# Altium footprint library USB_SERIE.PcbLib: 1 footprints
Each footprint in its own frame and in the unit in brackets; x right, y up, seen from the top. Pads: shape width x height; smd on the part's side, far side on the other; paste and mask are expansions set on the pad; w line width, h text height; cw(c..) or ccw(c..) is an arc to the next point about the centre after c.
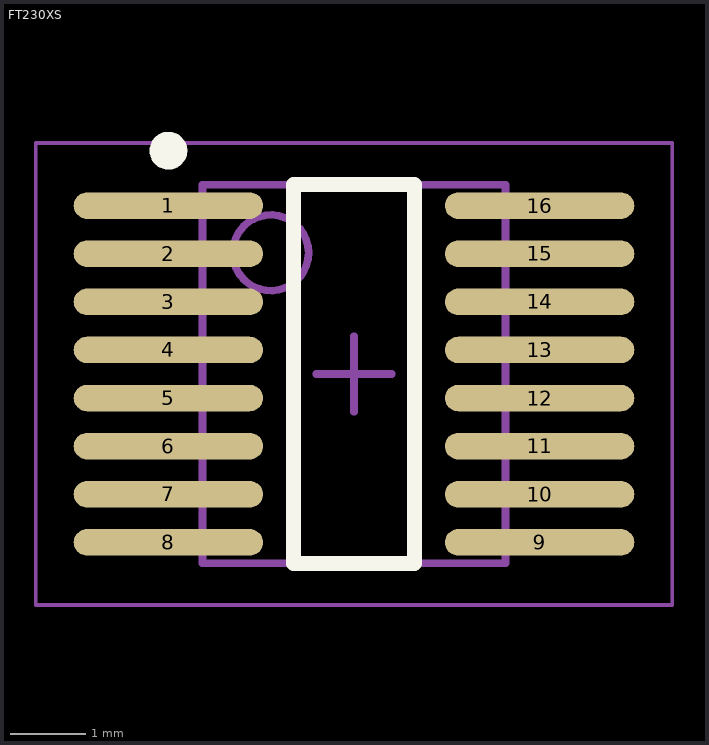
[diagram p0: the footprint, top view; thin cyan lines are the x and y axes]

## FT230XS [mm] "FT230XS"
height 1.76
pads (16):
  oval 2.5x0.35 smd: 1(-78.4,71.12) 2(-78.4,70.485) 3(-78.4,69.85) 4(-78.4,69.215) 5(-78.4,68.58) 6(-78.4,67.945) 7(-78.4,67.31) 8(-78.4,66.675) 9(-73.5,66.675) 10(-73.5,67.31) 11(-73.5,67.945) 12(-73.5,68.58) 13(-73.5,69.215) 14(-73.5,69.85) 15(-73.5,70.485) 16(-73.5,71.12)
Top Overlay:
  circle w0.25: c-78.4,71.845 r0.125
  lines w0.2: -76.75,66.397 -75.15,66.397 -75.15,71.398 -76.75,71.398 -76.75,66.397
Mechanical 13:
  circle w0.1: c-77.05,70.497 r0.5
  lines w0.1: -77.95,66.397 -73.95,66.397 -73.95,71.398 -77.95,71.398 -77.95,66.397
Mechanical 15:
  lines w0.05: -80.15,65.848 -71.75,65.848 -71.75,71.947 -80.15,71.947 -80.15,65.848
  lines w0.1: -76.45,68.897 -75.45,68.897 ; -75.95,68.398 -75.95,69.397
3D body: height 1.76, standoff 0.1, extent -77.95,66.397 -73.95,71.398